# EAGLE library part USB-C_POWER_SUN5463 (library CDC Library v130)
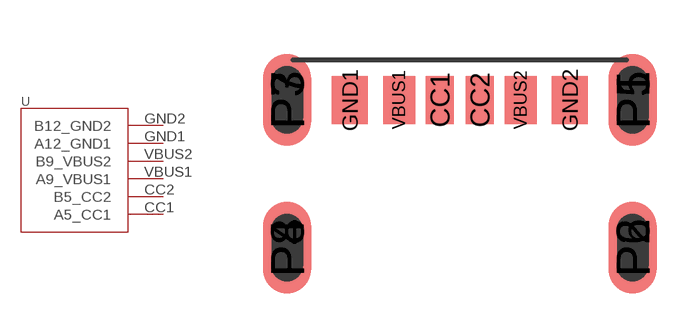
[diagram p10: symbol with the pads of USB-C_POWER_SUN5463; footprint USB-C_POWER_SUN5463]

Designator prefix -

## USB-C_POWER_SUN5463  [USB-C_POWER_SUN5463]
CC1  A5_CC1
CC2  B5_CC2
GND1  A12_GND1
GND2  B12_GND2
VBUS1  A9_VBUS1
VBUS2  B9_VBUS2

## Footprint USB-C_POWER_SUN5463 (pad centres in mm)
smd 0.7 x 1.2: CC1 -0.5,0; CC2 0.5,0
smd 0.9 x 1.2: GND1 -2.75,0; GND2 2.75,0
smd 1.2 x 2.3 bottom: P1 4.32,0; P2 4.32,-3.7; P3 -4.32,0; P4 -4.32,-3.7
smd 1.2 x 2.3: P5 4.32,0; P6 4.32,-3.7; P7 -4.32,0; P8 -4.32,-3.7
smd 0.8 x 1.2: VBUS1 -1.52,0; VBUS2 1.52,0